# EAGLE library part ADXL325BCPZ (library ADXL325)
Small, Low Power, 3-Axis ±5 g Accelerometer
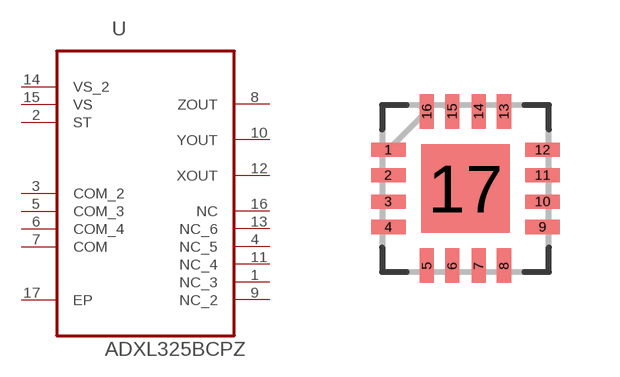
[diagram p0: symbol with the pads of QFN65P400X400X150-17N; footprint QFN65P400X400X150-17N]

Designator prefix U

## ADXL325BCPZ (MPN: ADXL325BCPZ; OC_FARNELL: 1786063; OC_NEWARK: 05R6561; PACKAGE: LFCSP-16; SUPPLIER: Analog Devices)  [QFN65P400X400X150-17N]
1  NC_3  pas
2  ST  pas
3  COM_2  pas
4  NC_5  pas
5  COM_3  pas
6  COM_4  pas
7  COM  pas
8  ZOUT  pas
9  NC_2  pas
10  YOUT  pas
11  NC_4  pas
12  XOUT  pas
13  NC_6  pas
14  VS_2  pwr
15  VS  pwr
16  NC  pas
17  EP  pas

## Footprint QFN65P400X400X150-17N (pad centres in mm)
smd 0.864 x 0.356: 1 -1.93,0.965; 2 -1.93,0.33; 3 -1.93,-0.33; 4 -1.93,-0.965; 9 1.93,-0.965; 10 1.93,-0.33; 11 1.93,0.33; 12 1.93,0.965
smd 0.356 x 0.864: 5 -0.965,-1.93; 6 -0.33,-1.93; 7 0.33,-1.93; 8 0.965,-1.93; 13 0.965,1.93; 14 0.33,1.93; 15 -0.33,1.93; 16 -0.965,1.93
smd 2.21 x 2.21: 17 0,0